# EAGLE library part SI7020 (library FlightCPU)
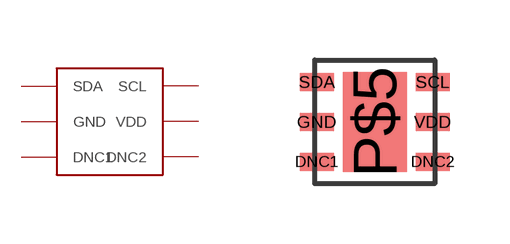
[diagram p2: symbol with the pads of DFN-6; footprint DFN-6]

Designator prefix -

## SI7020  [DFN-6]
DNC1  DNC1
DNC2  DNC2
GND  GND
SCL  SCL
SDA  SDA
VDD  VDD

## Footprint DFN-6 (pad centres in mm)
smd 0.85 x 0.45: DNC1 -1.35,-3.25; DNC2 1.55,-3.25; GND -1.35,-2.25; SCL 1.55,-1.25; SDA -1.35,-1.25; VDD 1.55,-2.25
smd 1.6 x 2.5: P$5 0.1,-2.25